# Altium footprint library 0ZCK0050FF2E.PcbLib: 1 footprints
Each footprint in its own frame and in the unit in brackets; x right, y up, seen from the top. Pads: shape width x height; smd on the part's side, far side on the other; paste and mask are expansions set on the pad; w line width, h text height; cw(c..) or ccw(c..) is an arc to the next point about the centre after c.
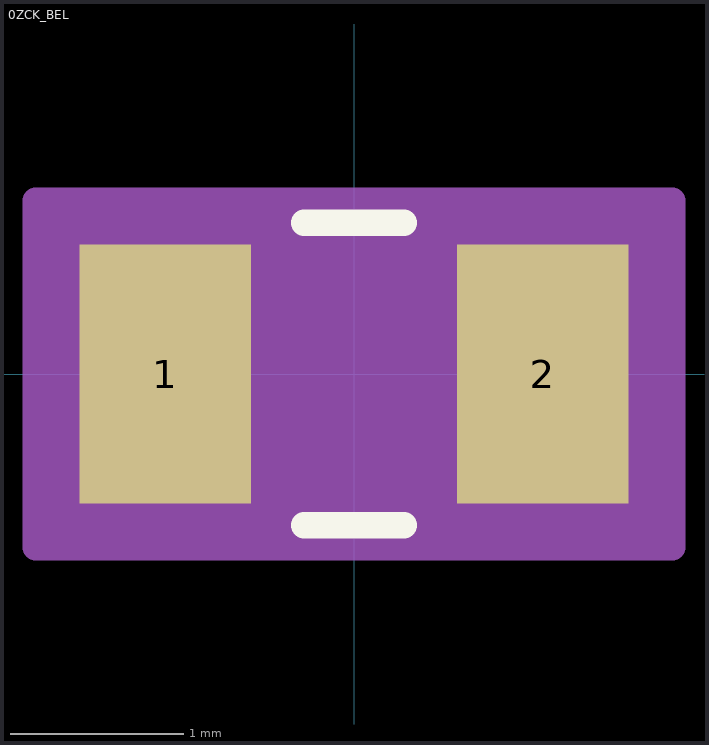
[diagram p0: the footprint, top view; thin cyan lines are the x and y axes]

## 0ZCK_BEL [mil]
pads (2):
  rect 39x59 smd paste+0 mask+0: 1(-43,0) 2(43,0)
Top Overlay:
  lines w6: -11.39,-34.5 11.39,-34.5 ; -11.39,34.5 11.39,34.5
Mechanical 13:
  lines w1: -45.5,-29.5 45.5,-29.5 45.5,29.5 -45.5,29.5 -45.5,-29.5
Mechanical 15:
  region: -55.5,-39.5 -72.5,-39.5 -72.5,39.5 -55.5,39.5 55.5,39.5 72.5,39.5 72.5,-39.5 55.5,-39.5
  region: 45.5,-29.5 -45.5,-29.5 -45.5,29.5 45.5,29.5
  lines w6: -72.5,-39.5 -72.5,39.5 -55.5,39.5 55.5,39.5 72.5,39.5 72.5,-39.5 55.5,-39.5 -55.5,-39.5 -72.5,-39.5
3D body "0ZCK_BEL.step": height 71.1, standoff -0.12, extent -45.51,-29.61 45.51,29.61